# EAGLE library part 760895431 (library Victor)
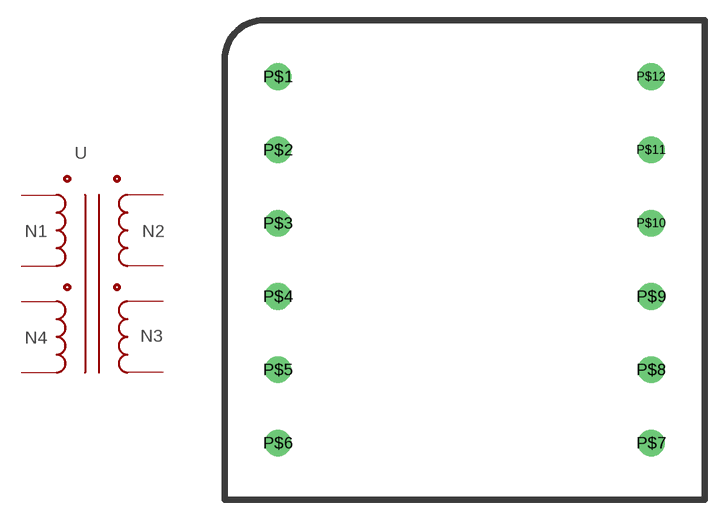
[diagram p8: symbol with the pads of ETD34; footprint ETD34]

Designator prefix -

## 760895431  [ETD34]
P$2  2
P$4  4
P$5  5
P$6  6
P$8  8
P$9  9
P$10  10
P$11  11

## Footprint ETD34 (pad centres in mm)
drill 1.2 pad 2 round: P$1 -14,13.75; P$2 -14,8.25; P$3 -14,2.75; P$4 -14,-2.75; P$5 -14,-8.25; P$6 -14,-13.75; P$7 14,-13.75; P$8 14,-8.25; P$9 14,-2.75; P$10 14,2.75; P$11 14,8.25; P$12 14,13.75